# EAGLE library part MC34063 (library _mtvl.power)
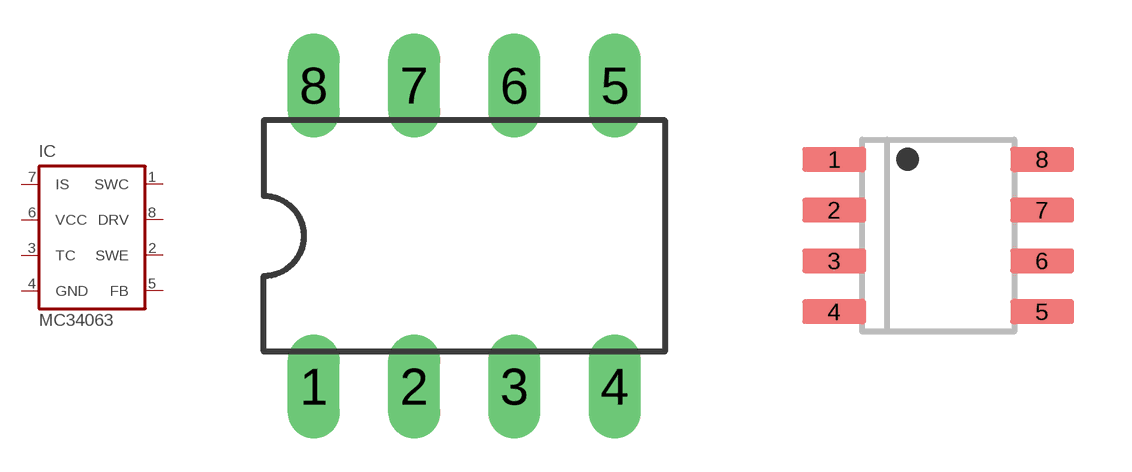
[diagram p6: symbol with the pads of DIL08; footprints DIL08, SOIC8]

Designator prefix IC

## MC34063AP  [DIL08]
1  SWC  pas
2  SWE  pas
3  TC  pas
4  GND  pas
5  FB  pas
6  VCC  pas
7  IS  pas
8  DRV  pas

## MC34063AD  [SOIC8]
Pads as for DIL08

## Footprint DIL08 (pad centres in mm)
Dual In Line Package
drill 0.813 long: 1 -3.81,-3.81; 2 -1.27,-3.81; 3 1.27,-3.81; 4 3.81,-3.81; 5 3.81,3.81; 6 1.27,3.81; 7 -1.27,3.81; 8 -3.81,3.81

## Footprint SOIC8 (pad centres in mm)
Small Outline IC
smd 1.6 x 0.61: 1 -2.6,1.905; 2 -2.6,0.635; 3 -2.6,-0.635; 4 -2.6,-1.905; 5 2.6,-1.905; 6 2.6,-0.635; 7 2.6,0.635; 8 2.6,1.905